# Altium schematic symbol library Schlib1.SchLib: 4 symbols
Pins are listed as number, name and electrical type; pins without a type are passive.

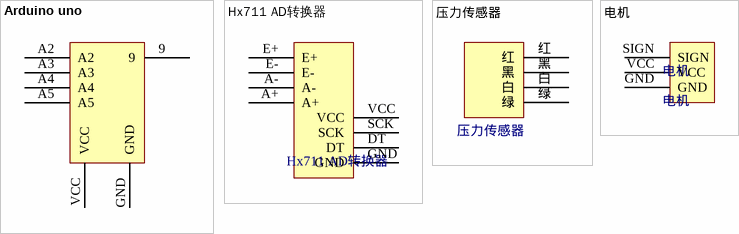
[diagram p0: symbols Arduino uno to 电机]

## Arduino uno
designator Arduino uno  (value not drawn)
pins: 9, A2, A3, A4, A5, GND, VCC

## Hx711 AD转换器
designator Hx711 AD转换器  (value not drawn)
pins: A+, A-, DT, E+, E-, GND, SCK, VCC

## 压力传感器
designator 压力传感器  (value not drawn)
pins: 白, 红, 绿, 黑

## 电机
designator 电机
pins: GND, SIGN, VCC